# EAGLE library part LM293D (library IC)
IC COMPARATOR DIFF DUAL 8SOIC Manufacturer's datasheet <http://www.ti.com/general/docs/suppproductinfo.tsp?distId=10&gotoUrl=http%3A%2F%2Fwww.ti.com%2Flit%2Fgpn%2Flm293>
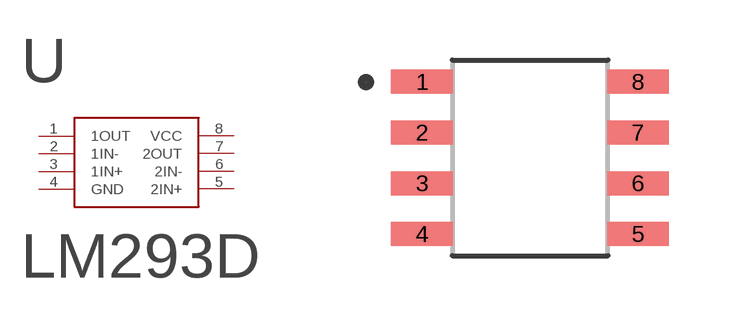
[diagram p3: symbol with the pads of 8-SOIC; footprint 8-SOIC]

Designator prefix U

## LM293D (CREATED_BY: PCBLayout.com; DIGIKEY_PART_NUMBER: 296-9531-5-ND; MANUFACTURER: Texas Instruments; MPN: LM293D; PACKAGE: 8-SOIC)  [8-SOIC]
1  1OUT  out
2  1IN-  in
3  1IN+  in
4  GND  pwr
5  2IN+  in
6  2IN-  in
7  2OUT  out
8  VCC  pwr

## Footprint 8-SOIC (pad centres in mm)
smd 1.55 x 0.6: 1 -2.7,1.905; 2 -2.7,0.635; 3 -2.7,-0.635; 4 -2.7,-1.905; 5 2.7,-1.905; 6 2.7,-0.635; 7 2.7,0.635; 8 2.7,1.905